# Altium footprint library Texas Instruments.PcbLib: 78 footprints (part 4 of 5)
Each footprint in its own frame and in the unit in brackets; x right, y up, seen from the top. Pads: shape width x height; smd on the part's side, far side on the other; paste and mask are expansions set on the pad; w line width, h text height; cw(c..) or ccw(c..) is an arc to the next point about the centre after c.
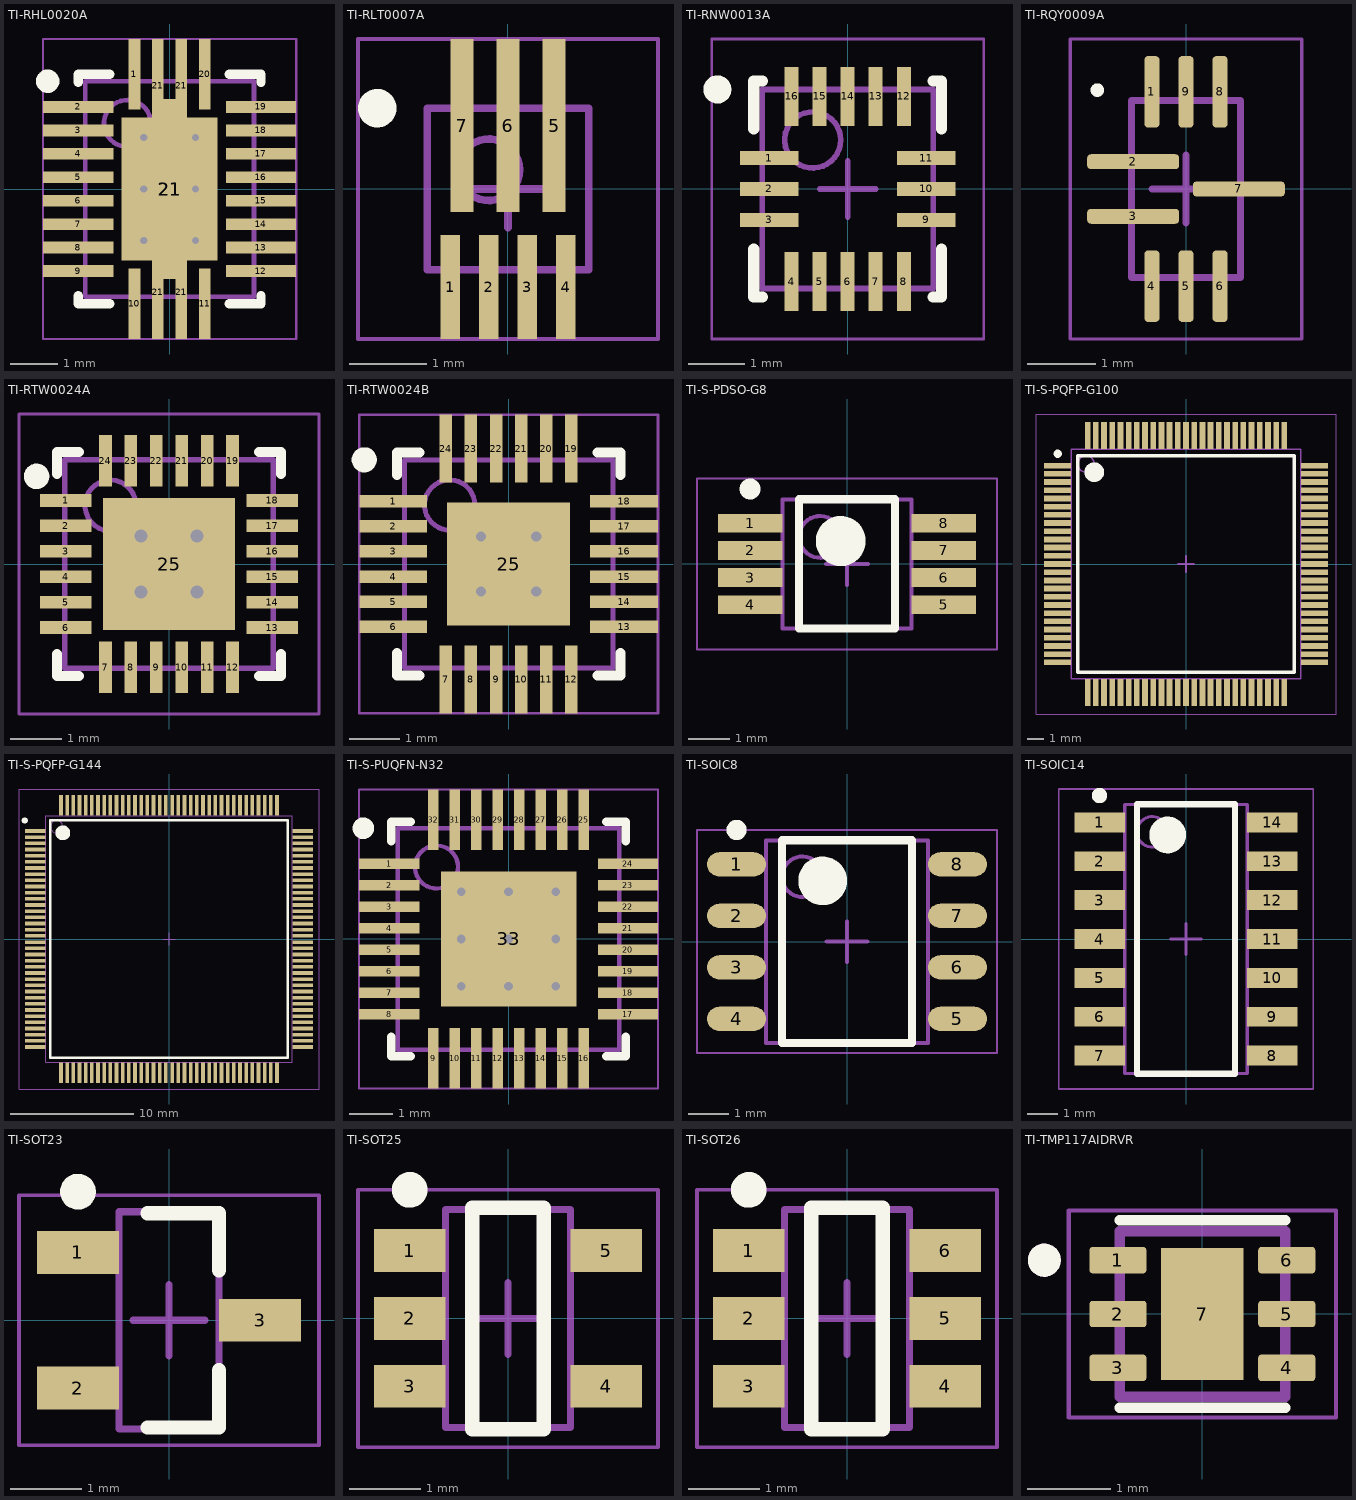
[diagram p3: the footprints below, top view; thin cyan lines are the x and y axes]

## TI-RHL0020A [mm] "QFN, 24-Leads, Body 3.50x4.50mm, Pitch 0.50mm, Thermal Pad 2.05x3.05mm, IPC Low Density"
height 1
pads (26):
  rect 0.25x1.5 smd: 1(-0.75,2.45) 10(-0.75,-2.45) 11(0.75,-2.45) 20(0.75,2.45)
  rect 1.5x0.25 smd: 2(-1.95,1.75) 3(-1.95,1.25) 4(-1.95,0.75) 5(-1.95,0.25) 6(-1.95,-0.25) 7(-1.95,-0.75) 8(-1.95,-1.25) 9(-1.95,-1.75) 12(1.95,-1.75) 13(1.95,-1.25) 14(1.95,-0.75) 15(1.95,-0.25) 16(1.95,0.25) 17(1.95,0.75) 18(1.95,1.25) 19(1.95,1.75)
  rect 0.25x2 smd: 21(-0.25,-2.2) 21(-0.25,2.2) 21(0.25,-2.2) 21(0.25,2.2)
  rect 0.5x3.85 smd: 21(0,0)
  rect 2.05x3.05 smd: 21(0,0)
via 0.55,-1.1 diameter 0.406 hole 0.152
via -0.55,-1.1 diameter 0.406 hole 0.152
via 0.55,0 diameter 0.406 hole 0.152
via -0.55,0 diameter 0.406 hole 0.152
via 0.55,1.1 diameter 0.406 hole 0.152
via -0.55,1.1 diameter 0.406 hole 0.152
Top Overlay:
  circle w0.25: c-2.6,2.3 r0.125
  lines w0.2: -1.95,-2.275 -1.95,-2.45 -1.275,-2.45 ; -1.95,2.275 -1.95,2.45 -1.275,2.45 ; 1.275,-2.45 1.95,-2.45 1.95,-2.275 ; 1.275,2.45 1.95,2.45 1.95,2.275
Top Assembly:
  circle w0.1: c-0.9,1.4 r0.5
  lines w0.1: -1.8,-2.3 1.8,-2.3 1.8,2.3 -1.8,2.3 -1.8,-2.3
Top Courtyard:
  lines w0.05: -2.7,-3.2 2.7,-3.2 2.7,3.2 -2.7,3.2 -2.7,-3.2
  lines w0.1: -0.5,0 0.5,0 ; 0,-0.5 0,0.5
3D body "TI-RHL0020A.step": height 1, standoff 0, extent -1.801,-2.301 1.801,2.301

## TI-RLT0007A [mm] "QFN, 8-Leads, Body 2.00x2.00mm, Pitch 0.50mm, IPC Low Density"
height 1
pads (7):
  rect 0.25x1.35 smd: 1(-0.75,-1.275) 2(-0.25,-1.275) 3(0.25,-1.275) 4(0.75,-1.275)
  rect 0.3x2.25 smd: 5(0.6,0.825) 6(0,0.825) 7(-0.6,0.825)
Top Overlay:
  circle w0.25: c-1.7,1.05 r0.125
Assembly Top:
  circle w0.1: c-0.25,0.25 r0.4
  lines w0.1: -1.05,-1.05 1.05,-1.05 1.05,1.05 -1.05,1.05 -1.05,-1.05
Courtyard Top:
  lines w0.05: -1.95,-1.95 1.95,-1.95 1.95,1.95 -1.95,1.95 -1.95,-1.95
  lines w0.1: -0.5,0 0.5,0 ; 0,-0.5 0,0.5
3D body "TI-RLT0007A.step": height 1, standoff 0, extent -1.05,-1.051 1.05,1.051

## TI-RNW0013A [mm] "QFN, 16-Leads, Body 3.00x3.50mm, Pitch 0.50mm/0.55mm, IPC Low Density"
height 1
pads (16):
  rect 1.05x0.25 smd: 1(-1.4,0.55) 2(-1.4,0) 3(-1.4,-0.55) 9(1.4,-0.55) 10(1.4,0) 11(1.4,0.55)
  rect 0.25x1.05 smd: 4(-1,-1.65) 5(-0.5,-1.65) 6(0,-1.65) 7(0.5,-1.65) 8(1,-1.65) 12(1,1.65) 13(0.5,1.65) 14(0,1.65) 15(-0.5,1.65) 16(-1,1.65)
Top Overlay:
  circle w0.25: c-2.325,1.775 r0.125
  lines w0.2: -1.675,-1.075 -1.675,-1.925 -1.525,-1.925 ; -1.675,1.075 -1.675,1.925 -1.525,1.925 ; 1.525,-1.925 1.675,-1.925 1.675,-1.075 ; 1.525,1.925 1.675,1.925 1.675,1.075
Assembly Top:
  circle w0.1: c-0.625,0.875 r0.5
  lines w0.1: -1.525,-1.775 1.525,-1.775 1.525,1.775 -1.525,1.775 -1.525,-1.775
Courtyard Top:
  lines w0.05: -2.425,-2.675 2.425,-2.675 2.425,2.675 -2.425,2.675 -2.425,-2.675
  lines w0.1: -0.5,0 0.5,0 ; 0,-0.5 0,0.5
3D body "TI-RNW0013A.step": height 1, standoff 0, extent -1.526,-1.776 1.526,1.776

## TI-RQY0009A [mm]
height 1
pads (9):
  rrect50% 0.22x1.05 smd mask+0.085: 1(-0.5,1.425) 4(-0.5,-1.425) 5(0,-1.425) 6(0.5,-1.425) 8(0.5,1.425) 9(0,1.425)
  rrect50% 1.35x0.22 smd mask+0.085: 2(-0.775,0.4) 3(-0.775,-0.4) 7(0.775,0)
Top Overlay:
  circle w0.1: c-1.3,1.45 r0.05
Top Assembly:
  lines w0.1: -0.8,-1.3 -0.8,1.3 0.8,1.3 0.8,-1.3 -0.8,-1.3
Top Courtyard:
  lines w0.05: -1.7,-2.2 -1.7,2.2 1.7,2.2 1.7,-2.2 -1.7,-2.2
  lines w0.1: -0.5,0 0.5,0 ; 0,-0.5 0,0.5
3D body "QFN127P600-8N.step": height 1, standoff 0, extent -0.8,-1.301 0.8,1.301

## TI-RTW0024A [mm] "QFN, 24-Leads, Body 4.00x4.00mm, Pitch 0.50mm, Thermal Pad 2.60x2.60mm, IPC Low Density"
height 0.8
pads (25):
  rect 1.016x0.25 smd: 1(-2.028,1.25) 2(-2.028,0.75) 3(-2.028,0.25) 4(-2.028,-0.25) 5(-2.028,-0.75) 6(-2.028,-1.25) 13(2.028,-1.25) 14(2.028,-0.75) 15(2.028,-0.25) 16(2.028,0.25) 17(2.028,0.75) 18(2.028,1.25)
  rect 0.25x1.016 smd: 7(-1.25,-2.028) 8(-0.75,-2.028) 9(-0.25,-2.028) 10(0.25,-2.028) 11(0.75,-2.028) 12(1.25,-2.028) 19(1.25,2.028) 20(0.75,2.028) 21(0.25,2.028) 22(-0.25,2.028) 23(-0.75,2.028) 24(-1.25,2.028)
  rect 2.6x2.6 smd: 25(0,0)
via 0.55,-0.55 diameter 0.656 hole 0.25
via -0.55,-0.55 diameter 0.656 hole 0.25
via 0.55,0.55 diameter 0.656 hole 0.25
via -0.55,0.55 diameter 0.656 hole 0.25
Top Overlay:
  circle w0.25: c-2.604,1.724 r0.125
  lines w0.2: -2.2,-1.775 -2.2,-2.2 -1.775,-2.2 ; -2.2,1.775 -2.2,2.2 -1.775,2.2 ; 1.775,-2.2 2.2,-2.2 2.2,-1.775 ; 1.775,2.2 2.2,2.2 2.2,1.775
Assembly Top:
  circle w0.1: c-1.15,1.15 r0.5
  lines w0.1: -2.05,-2.05 2.05,-2.05 2.05,2.05 -2.05,2.05 -2.05,-2.05
Courtyard Top:
  lines w0.05: -2.95,-2.95 2.95,-2.95 2.95,2.95 -2.95,2.95 -2.95,-2.95
  lines w0.1: -0.5,0 0.5,0 ; 0,-0.5 0,0.5
3D body "TI-RTW0024A.step": height 0.8, standoff 0, extent -2.051,-2.051 2.051,2.051

## TI-RTW0024B [mm] "QFN, 24-Leads, Body 4.00x4.00mm, Pitch 0.50mm, Thermal Pad 2.45x2.45mm, IPC Low Density"
height 0.8
pads (25):
  rect 1.35x0.25 smd: 1(-2.3,1.25) 2(-2.3,0.75) 3(-2.3,0.25) 4(-2.3,-0.25) 5(-2.3,-0.75) 6(-2.3,-1.25) 13(2.3,-1.25) 14(2.3,-0.75) 15(2.3,-0.25) 16(2.3,0.25) 17(2.3,0.75) 18(2.3,1.25)
  rect 0.25x1.35 smd: 7(-1.25,-2.3) 8(-0.75,-2.3) 9(-0.25,-2.3) 10(0.25,-2.3) 11(0.75,-2.3) 12(1.25,-2.3) 19(1.25,2.3) 20(0.75,2.3) 21(0.25,2.3) 22(-0.25,2.3) 23(-0.75,2.3) 24(-1.25,2.3)
  rect 2.45x2.45 smd: 25(0,0)
via -0.55,0.55 diameter 0.5 hole 0.2
via 0.55,0.55 diameter 0.5 hole 0.2
via -0.55,-0.55 diameter 0.5 hole 0.2
via 0.55,-0.55 diameter 0.5 hole 0.2
Top Overlay:
  circle w0.25: c-2.875,2.075 r0.125
  lines w0.2: -2.225,-1.775 -2.225,-2.225 -1.775,-2.225 ; -2.225,1.775 -2.225,2.225 -1.775,2.225 ; 1.775,-2.225 2.225,-2.225 2.225,-1.775 ; 1.775,2.225 2.225,2.225 2.225,1.775
Top Assembly:
  circle w0.1: c-1.175,1.175 r0.5
  lines w0.1: -2.075,-2.075 -2.075,2.075 2.075,2.075 2.075,-2.075 -2.075,-2.075
Top Courtyard:
  lines w0.05: -2.975,-2.975 -2.975,2.975 2.975,2.975 2.975,-2.975 -2.975,-2.975
  lines w0.1: -0.5,0 0.5,0 ; 0,-0.5 0,0.5
3D body "TI-RTW0024B.step": height 0.8, standoff 0, extent -2.076,-2.076 2.076,2.076

## TI-S-PDSO-G8 [mm] "TSOP, 8-Leads, Body 3.00x3.00mm, Pitch 0.65mm, IPC Low Density"
height 1.1
pads (8):
  rect 1.55x0.447 smd: 1(-2.325,0.975) 2(-2.325,0.325) 3(-2.325,-0.325) 4(-2.325,-0.975) 5(2.325,-0.975) 6(2.325,-0.325) 7(2.325,0.325) 8(2.325,0.975)
Top Overlay:
  circle w0.6: c-0.15,0.55 r0.3
  circle w0.25: c-2.325,1.8 r0.125
  lines w0.2: -1.15,-1.55 1.15,-1.55 1.15,1.55 -1.15,1.55 -1.15,-1.55
Top Assembly:
  circle w0.1: c-0.65,0.65 r0.5
  lines w0.1: -1.55,-1.55 1.55,-1.55 1.55,1.55 -1.55,1.55 -1.55,-1.55
Top Courtyard:
  lines w0.05: -3.6,-2.05 3.6,-2.05 3.6,2.05 -3.6,2.05 -3.6,-2.05
  lines w0.1: -0.5,0 0.5,0 ; 0,-0.5 0,0.5
3D body "TI-S-PDSO-G8.step": height 1.1, standoff 0, extent -2.45,-1.55 2.45,1.55

## TI-S-PQFP-G100 [mm] "TSQFP, 100-Leads, Body 14.00x14.00mm, Pitch 0.50mm, IPC Low Density"
height 1.6
pads (100):
  rect 1.65x0.35 smd: 1(-7.825,6) 2(-7.825,5.5) 3(-7.825,5) 4(-7.825,4.5) 5(-7.825,4) 6(-7.825,3.5) 7(-7.825,3) 8(-7.825,2.5) 9(-7.825,2) 10(-7.825,1.5) 11(-7.825,1) 12(-7.825,0.5) 13(-7.825,0) 14(-7.825,-0.5) 15(-7.825,-1) 16(-7.825,-1.5) 17(-7.825,-2) 18(-7.825,-2.5) 19(-7.825,-3) 20(-7.825,-3.5) 21(-7.825,-4) 22(-7.825,-4.5) 23(-7.825,-5) 24(-7.825,-5.5) 25(-7.825,-6) 51(7.825,-6) 52(7.825,-5.5) 53(7.825,-5) 54(7.825,-4.5) 55(7.825,-4) 56(7.825,-3.5) 57(7.825,-3) 58(7.825,-2.5) 59(7.825,-2) 60(7.825,-1.5) 61(7.825,-1) 62(7.825,-0.5) 63(7.825,0) 64(7.825,0.5) 65(7.825,1) 66(7.825,1.5) 67(7.825,2) 68(7.825,2.5) 69(7.825,3) 70(7.825,3.5) 71(7.825,4) 72(7.825,4.5) 73(7.825,5) 74(7.825,5.5) 75(7.825,6)
  rect 0.35x1.65 smd: 26(-6,-7.825) 27(-5.5,-7.825) 28(-5,-7.825) 29(-4.5,-7.825) 30(-4,-7.825) 31(-3.5,-7.825) 32(-3,-7.825) 33(-2.5,-7.825) 34(-2,-7.825) 35(-1.5,-7.825) 36(-1,-7.825) 37(-0.5,-7.825) 38(0,-7.825) 39(0.5,-7.825) 40(1,-7.825) 41(1.5,-7.825) 42(2,-7.825) 43(2.5,-7.825) 44(3,-7.825) 45(3.5,-7.825) 46(4,-7.825) 47(4.5,-7.825) 48(5,-7.825) 49(5.5,-7.825) 50(6,-7.825) 76(6,7.825) 77(5.5,7.825) 78(5,7.825) 79(4.5,7.825) 80(4,7.825) 81(3.5,7.825) 82(3,7.825) 83(2.5,7.825) 84(2,7.825) 85(1.5,7.825) 86(1,7.825) 87(0.5,7.825) 88(0,7.825) 89(-0.5,7.825) 90(-1,7.825) 91(-1.5,7.825) 92(-2,7.825) 93(-2.5,7.825) 94(-3,7.825) 95(-3.5,7.825) 96(-4,7.825) 97(-4.5,7.825) 98(-5,7.825) 99(-5.5,7.825) 100(-6,7.825)
Top Overlay:
  circle w0.6: c-5.6,5.6 r0.3
  circle w0.25: c-7.825,6.725 r0.125
  lines w0.2: -6.6,-6.6 6.6,-6.6 6.6,6.6 -6.6,6.6 -6.6,-6.6
Assembly Top:
  circle w0.1: c-6.1,6.1 r0.5
  lines w0.1: -7,-7 -7,7 7,7 7,-7 -7,-7
Courtyard Top:
  lines w0.05: -9.15,-9.15 -9.15,9.15 9.15,9.15 9.15,-9.15 -9.15,-9.15
  lines w0.1: -0.5,0 0.5,0 ; 0,-0.5 0,0.5
3D body "TI-S-PQGP-G100.step": height 1.6, standoff 0, extent -8,-8 8,8

## TI-S-PQFP-G144 [mm] "TSQFP, 144-Leads, Body 20.00x20.00mm, Pitch 0.50mm, IPC Low Density"
height 1.6
pads (144):
  rect 1.65x0.297 smd: 1(-10.825,8.75) 2(-10.825,8.25) 3(-10.825,7.75) 4(-10.825,7.25) 5(-10.825,6.75) 6(-10.825,6.25) 7(-10.825,5.75) 8(-10.825,5.25) 9(-10.825,4.75) 10(-10.825,4.25) 11(-10.825,3.75) 12(-10.825,3.25) 13(-10.825,2.75) 14(-10.825,2.25) 15(-10.825,1.75) 16(-10.825,1.25) 17(-10.825,0.75) 18(-10.825,0.25) 19(-10.825,-0.25) 20(-10.825,-0.75) 21(-10.825,-1.25) 22(-10.825,-1.75) 23(-10.825,-2.25) 24(-10.825,-2.75) 25(-10.825,-3.25) 26(-10.825,-3.75) 27(-10.825,-4.25) 28(-10.825,-4.75) 29(-10.825,-5.25) 30(-10.825,-5.75) 31(-10.825,-6.25) 32(-10.825,-6.75) 33(-10.825,-7.25) 34(-10.825,-7.75) 35(-10.825,-8.25) 36(-10.825,-8.75) 73(10.825,-8.75) 74(10.825,-8.25) 75(10.825,-7.75) 76(10.825,-7.25) 77(10.825,-6.75) 78(10.825,-6.25) 79(10.825,-5.75) 80(10.825,-5.25) 81(10.825,-4.75) 82(10.825,-4.25) 83(10.825,-3.75) 84(10.825,-3.25) 85(10.825,-2.75) 86(10.825,-2.25) 87(10.825,-1.75) 88(10.825,-1.25) 89(10.825,-0.75) 90(10.825,-0.25) 91(10.825,0.25) 92(10.825,0.75) 93(10.825,1.25) 94(10.825,1.75) 95(10.825,2.25) 96(10.825,2.75) 97(10.825,3.25) 98(10.825,3.75) 99(10.825,4.25) 100(10.825,4.75) 101(10.825,5.25) 102(10.825,5.75) 103(10.825,6.25) 104(10.825,6.75) 105(10.825,7.25) 106(10.825,7.75) 107(10.825,8.25) 108(10.825,8.75)
  rect 0.297x1.65 smd: 37(-8.75,-10.825) 38(-8.25,-10.825) 39(-7.75,-10.825) 40(-7.25,-10.825) 41(-6.75,-10.825) 42(-6.25,-10.825) 43(-5.75,-10.825) 44(-5.25,-10.825) 45(-4.75,-10.825) 46(-4.25,-10.825) 47(-3.75,-10.825) 48(-3.25,-10.825) 49(-2.75,-10.825) 50(-2.25,-10.825) 51(-1.75,-10.825) 52(-1.25,-10.825) 53(-0.75,-10.825) 54(-0.25,-10.825) 55(0.25,-10.825) 56(0.75,-10.825) 57(1.25,-10.825) 58(1.75,-10.825) 59(2.25,-10.825) 60(2.75,-10.825) 61(3.25,-10.825) 62(3.75,-10.825) 63(4.25,-10.825) 64(4.75,-10.825) 65(5.25,-10.825) 66(5.75,-10.825) 67(6.25,-10.825) 68(6.75,-10.825) 69(7.25,-10.825) 70(7.75,-10.825) 71(8.25,-10.825) 72(8.75,-10.825) 109(8.75,10.825) 110(8.25,10.825) 111(7.75,10.825) 112(7.25,10.825) 113(6.75,10.825) 114(6.25,10.825) 115(5.75,10.825) 116(5.25,10.825) 117(4.75,10.825) 118(4.25,10.825) 119(3.75,10.825) 120(3.25,10.825) 121(2.75,10.825) 122(2.25,10.825) 123(1.75,10.825) 124(1.25,10.825) 125(0.75,10.825) 126(0.25,10.825) 127(-0.25,10.825) 128(-0.75,10.825) 129(-1.25,10.825) 130(-1.75,10.825) 131(-2.25,10.825) 132(-2.75,10.825) 133(-3.25,10.825) 134(-3.75,10.825) 135(-4.25,10.825) 136(-4.75,10.825) 137(-5.25,10.825) 138(-5.75,10.825) 139(-6.25,10.825) 140(-6.75,10.825) 141(-7.25,10.825) 142(-7.75,10.825) 143(-8.25,10.825) 144(-8.75,10.825)
Top Overlay:
  circle w0.6: c-8.6,8.6 r0.3
  circle w0.25: c-11.684,9.6 r0.125
  lines w0.2: -9.6,-9.6 9.6,-9.6 9.6,9.6 -9.6,9.6 -9.6,-9.6
Assembly Top:
  circle w0.1: c-9.1,9.1 r0.5
  lines w0.1: -10,-10 10,-10 10,10 -10,10 -10,-10
Courtyard Top:
  lines w0.05: -12.15,-12.15 12.15,-12.15 12.15,12.15 -12.15,12.15 -12.15,-12.15
  lines w0.1: -0.5,0 0.5,0 ; 0,-0.5 0,0.5
3D body "TI-S-PQGP-144.step": height 1.6, standoff 0, extent -11,-11 11,11

## TI-S-PUQFN-N32 [mm] "QFN, 32-Leads, Body 5.00x5.00mm, Pitch 0.50mm, Thermal Pad 3.15x3.15mm, IPC Low Density"
height 0.6
pads (33):
  rect 1.4x0.25 smd: 1(-2.775,1.75) 2(-2.775,1.25) 3(-2.775,0.75) 4(-2.775,0.25) 5(-2.775,-0.25) 6(-2.775,-0.75) 7(-2.775,-1.25) 8(-2.775,-1.75) 17(2.775,-1.75) 18(2.775,-1.25) 19(2.775,-0.75) 20(2.775,-0.25) 21(2.775,0.25) 22(2.775,0.75) 23(2.775,1.25) 24(2.775,1.75)
  rect 0.25x1.4 smd: 9(-1.75,-2.775) 10(-1.25,-2.775) 11(-0.75,-2.775) 12(-0.25,-2.775) 13(0.25,-2.775) 14(0.75,-2.775) 15(1.25,-2.775) 16(1.75,-2.775) 25(1.75,2.775) 26(1.25,2.775) 27(0.75,2.775) 28(0.25,2.775) 29(-0.25,2.775) 30(-0.75,2.775) 31(-1.25,2.775) 32(-1.75,2.775)
  rect 3.15x3.15 smd: 33(0,0)
via -1.1,1.1 diameter 0.5 hole 0.2
via 0,1.1 diameter 0.5 hole 0.2
via 1.1,1.1 diameter 0.5 hole 0.2
via -1.1,0 diameter 0.5 hole 0.2
via 0,0 diameter 0.5 hole 0.2
via 1.1,0 diameter 0.5 hole 0.2
via -1.1,-1.1 diameter 0.5 hole 0.2
via 0,-1.1 diameter 0.5 hole 0.2
via 1.1,-1.1 diameter 0.5 hole 0.2
Top Overlay:
  circle w0.25: c-3.375,2.575 r0.125
  lines w0.2: -2.725,-2.275 -2.725,-2.725 -2.275,-2.725 ; -2.725,2.275 -2.725,2.725 -2.275,2.725 ; 2.275,-2.725 2.725,-2.725 2.725,-2.275 ; 2.275,2.725 2.725,2.725 2.725,2.275
Top Assembly:
  circle w0.1: c-1.675,1.675 r0.5
  lines w0.1: -2.575,-2.575 -2.575,2.575 2.575,2.575 2.575,-2.575 -2.575,-2.575
Top Courtyard:
  lines w0.05: -3.475,-3.475 -3.475,3.475 3.475,3.475 3.475,-3.475 -3.475,-3.475
  lines w0.1: -0.5,0 0.5,0 ; 0,-0.5 0,0.5
3D body "TI-S-PUQFN-N32.step": height 0.6, standoff 0, extent -2.576,-2.576 2.576,2.576

## TI-SOIC8 [mm] "SOIC, 8-Leads, Body 4.90x3.90mm, Pitch 1.27mm, IPC Medium Density"
height 1.75
pads (8):
  oval 1.45x0.6 smd: 1(-2.725,1.905) 2(-2.725,0.635) 3(-2.725,-0.635) 4(-2.725,-1.905) 5(2.725,-1.905) 6(2.725,-0.635) 7(2.725,0.635) 8(2.725,1.905)
Top Overlay:
  circle w0.25: c-2.725,2.755 r0.125
  circle w0.6: c-0.6,1.5 r0.3
  lines w0.2: -1.6,-2.5 -1.6,2.5 1.6,2.5 1.6,-2.5 -1.6,-2.5
Assembly Top:
  circle w0.1: c-1.1,1.6 r0.5
  lines w0.1: -2,-2.5 2,-2.5 2,2.5 -2,2.5 -2,-2.5
Courtyard Top:
  lines w0.05: -3.7,-2.75 3.7,-2.75 3.7,2.75 -3.7,2.75 -3.7,-2.75
  lines w0.1: -0.5,0 0.5,0 ; 0,-0.5 0,0.5
3D body: height 1.75, standoff 0.1, extent -2,-2.5 2,2.5

## TI-SOIC14 [mm] "SOIC, 14-Leads, Body 8.65x3.90mm, Pitch 1.27mm, IPC Low Density"
height 1.75
pads (14):
  rect 1.65x0.65 smd: 1(-2.825,3.81) 2(-2.825,2.54) 3(-2.825,1.27) 4(-2.825,0) 5(-2.825,-1.27) 6(-2.825,-2.54) 7(-2.825,-3.81) 8(2.825,-3.81) 9(2.825,-2.54) 10(2.825,-1.27) 11(2.825,0) 12(2.825,1.27) 13(2.825,2.54) 14(2.825,3.81)
Top Overlay:
  circle w0.6: c-0.6,3.4 r0.3
  circle w0.25: c-2.825,4.685 r0.125
  lines w0.2: -1.6,-4.4 1.6,-4.4 1.6,4.4 -1.6,4.4 -1.6,-4.4
Courtyard Top:
  lines w0.05: -4.15,-4.9 4.15,-4.9 4.15,4.9 -4.15,4.9 -4.15,-4.9
  lines w0.1: -0.5,0 0.5,0 ; 0,-0.5 0,0.5
3D Body Top:
  circle w0.1: c-1.1,3.5 r0.5
  lines w0.1: -2,-4.4 2,-4.4 2,4.4 -2,4.4 -2,-4.4
3D body "TI-SOIC14.step": height 1.75, standoff 0, extent -3,-4.4 3,4.4

## TI-SOT23 [mm] "SOT23, 3-Leads, Body 2.92x2.80mm, Pitch 0.95mm, IPC Medium Density"
height 1.12
pads (3):
  rect 1.15x0.6 smd: 1(-1.275,0.95) 2(-1.275,-0.95) 3(1.275,0)
Top Overlay:
  circle w0.25: c-1.275,1.8 r0.125
  lines w0.2: -0.3,-1.5 0.7,-1.5 0.7,-0.7 ; -0.3,1.5 0.7,1.5 0.7,0.7
Assembly Top:
  lines w0.1: -0.7,-1.52 0.7,-1.52 0.7,1.52 -0.7,1.52 -0.7,-1.52
Courtyard Top:
  lines w0.05: -2.1,-1.75 2.1,-1.75 2.1,1.75 -2.1,1.75 -2.1,-1.75
  lines w0.1: -0.5,0 0.5,0 ; 0,-0.5 0,0.5
3D body: height 1.12, standoff 0.01, extent -0.7,-1.52 0.7,1.52

## TI-SOT25 [mm] "SOT23, 5-Leads, Body 2.90x2.80mm, Pitch 0.95mm, IPC Medium Density"
height 1.45
pads (5):
  rect 1x0.6 smd: 1(-1.375,0.95) 2(-1.375,0) 3(-1.375,-0.95) 4(1.375,-0.95) 5(1.375,0.95)
Top Overlay:
  circle w0.25: c-1.375,1.8 r0.125
  lines w0.2: -0.5,-1.55 0.5,-1.55 0.5,1.55 -0.5,1.55 -0.5,-1.55
Assembly Top:
  lines w0.1: -0.875,-1.525 0.875,-1.525 0.875,1.525 -0.875,1.525 -0.875,-1.525
Courtyard Top:
  lines w0.05: -2.1,-1.8 2.1,-1.8 2.1,1.8 -2.1,1.8 -2.1,-1.8
  lines w0.1: -0.5,0 0.5,0 ; 0,-0.5 0,0.5
3D body: height 1.45, standoff 0, extent -0.875,-1.525 0.875,1.525

## TI-SOT26 [mm] "SOT23, 6-Leads, Body 2.90x2.80mm, Pitch 0.95mm, IPC Medium Density"
height 1.45
pads (6):
  rect 1x0.6 smd: 1(-1.375,0.95) 2(-1.375,0) 3(-1.375,-0.95) 4(1.375,-0.95) 5(1.375,0) 6(1.375,0.95)
Top Overlay:
  circle w0.25: c-1.375,1.8 r0.125
  lines w0.2: -0.5,-1.55 -0.5,1.55 0.5,1.55 0.5,-1.55 -0.5,-1.55
Assembly Top:
  lines w0.1: -0.875,-1.525 -0.875,1.525 0.875,1.525 0.875,-1.525 -0.875,-1.525
Courtyard Top:
  lines w0.05: -2.1,-1.8 -2.1,1.8 2.1,1.8 2.1,-1.8 -2.1,-1.8
  lines w0.1: -0.5,0 0.5,0 ; 0,-0.5 0,0.5
3D body: height 1.45, standoff 0, extent -0.875,-1.525 0.875,1.525

## TI-TMP117AIDRVR [mm]
pads (7):
  rrect25% 0.69x0.32 smd: 1(-1.02,0.65) 2(-1.02,0) 3(-1.02,-0.65) 4(1.02,-0.65) 5(1.02,0) 6(1.02,0.65)
  rect 1x1.6 smd paste-2: 7(0,0)
Top Overlay:
  circle w0.2: c-1.91,0.65 r0.1
  lines w0.127: -1,-1.13 1,-1.13 ; -1,1.13 1,1.13
Top Paste:
  region: 0.316,-0.506 -0.316,-0.506 -0.316,0.506 0.316,0.506
Mechanical 13:
  circle w0.2: c-1.91,0.65 r0.1
  lines w0.127: -1,-1 -1,1 1,1 1,-1 -1,-1
Mechanical 15:
  lines w0.05: -1.615,-1.25 -1.615,1.25 1.615,1.25 1.615,-1.25 -1.615,-1.25
3D body "step_temp.STEP": height 0.8, standoff 0, extent -1,-1 1,1